# EAGLE library part USB_MINI_B (library aerial)
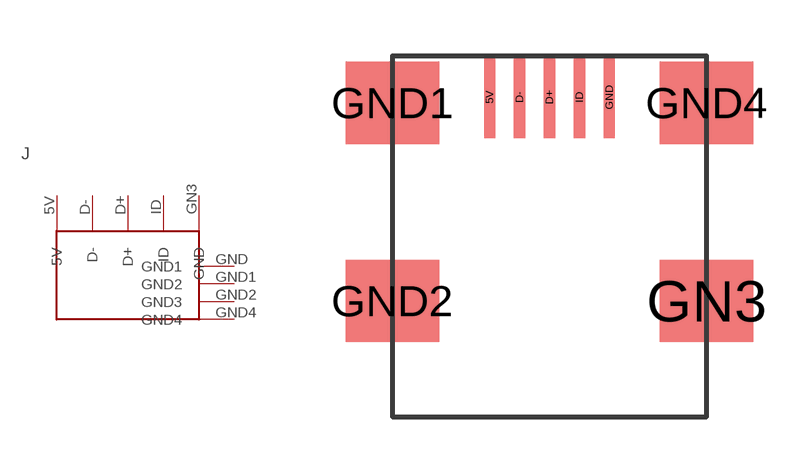
[diagram p3: symbol with the pads of USB_MINI_B; footprint USB_MINI_B]

Designator prefix J

## USB_MINI_B  [USB_MINI_B]
5V  5V
D+  D+
D-  D-
GN3  GND
GND  GND1
GND1  GND2
GND2  GND3
GND4  GND4
ID  ID

## Footprint USB_MINI_B (pad centres in mm)
smd 0.3 x 2.2: 5V 2.6,8.55; D+ 4.2,8.55; D- 3.4,8.55; GND 5.8,8.55; ID 5,8.55
smd 2.5 x 2.2: GN3 8.4,3.1; GND1 0,8.4; GND2 0,3.1; GND4 8.4,8.4